# Altium integrated library LM741CN.IntLib: 1 symbol
Pins are listed as number, name and electrical type; pins without a type are passive.

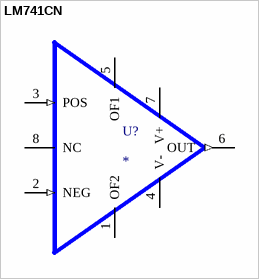
[diagram p0: symbol LM741CN]

## LM741CN
designator U?
General Purpose Amplifier 1 Circuit - 8-DIP; MP: LM741CN; MF: ON Semiconductor; Value: *; SnapEDA_Link: https://www.snapeda.com/parts/LM741CN/Onsemi/view-part/?ref=snap; Purchase-URL: https://pricing.snapeda.com/search/part/LM741CN/?ref=eda; Check_prices: https://www.snapeda.com/parts/LM741CN/Onsemi/view-part/?ref=eda; Availability: In Stock; Price: None; Package: DIP-8 ON Semiconductor
footprint DIP254P762X508-8
pins: 1 OF2, 2 NEG (in), 3 POS (in), 4 V- (power), 5 OF1, 6 OUT (out), 7 V+ (power), 8 NC